# Altium schematic symbol library Capacitors-0603.SchLib: 6 symbols
Pins are listed as number, name and electrical type; pins without a type are passive.

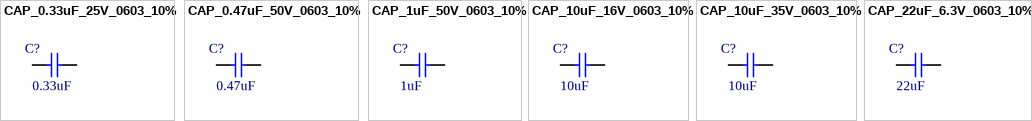
[diagram p0: symbols CAP_0.33uF_25V_0603_10% to CAP_22uF_6.3V_0603_10%]

## CAP_0.33uF_25V_0603_10%
designator C?, comment value 0.33uF  (hidden comment: 0.33uF 25V 0603)
0.33uF 25V 10% 0603 (1608 Metric); PartNumber: GCJ188R91E334KA01D; Manufacturer: Murata; Mounting Technology: Surface Mount; PackageReference: 0603; PackageDescription: 0603 (1608 Metric); Voltage: 25V; Tolerance: 10%
footprint C0603[1608X92] (Chip Capacitor, Body 1.6x0.8mm)
pins: 1, 2

## CAP_0.47uF_50V_0603_10%
designator C?, comment value 0.47uF  (hidden comment: 0.47uF 50V 0603)
0.47uF 50V 10% 0603 (1608 Metric); PartNumber: GRM188R61H474KA12D; Manufacturer: Murata; Mounting Technology: Surface Mount; PackageReference: 0603; PackageDescription: 0603 (1608 Metric); Voltage: 50V; Tolerance: 10%
footprint C0603[1608X92] (Chip Capacitor, Body 1.6x0.8mm)
pins: 1, 2

## CAP_1uF_50V_0603_10%
designator C?, comment value 1uF  (hidden comment: 1uF 50V 0603)
1uF 50V 10% 0603 (1608 Metric); PartNumber: GRM188R61H105KAALD; Manufacturer: Murata; Mounting Technology: Surface Mount; PackageReference: 0603; PackageDescription: 0603 (1608 Metric); Voltage: 50V; Tolerance: 10%
footprint C0603[1608X92] (Chip Capacitor, Body 1.6x0.8mm)
pins: 1, 2

## CAP_10uF_16V_0603_10%
designator C?, comment value 10uF  (hidden comment: 10uF 16V 0603)
10uF 16V 10% 0603 (1608 Metric); PartNumber: GRM188R61C106KAALD; Manufacturer: Murata; Mounting Technology: Surface Mount; PackageReference: 0603; PackageDescription: 0603 (1608 Metric); Voltage: 16V; Tolerance: 10%
footprint C0603[1608X92] (Chip Capacitor, Body 1.6x0.8mm)
pins: 1, 2

## CAP_10uF_35V_0603_10%
designator C?, comment value 10uF  (hidden comment: 10uF 35V 0603)
10uF 35V 10% 0603 (1608 Metric); PartNumber: GRM188R6YA106MA73D; Manufacturer: Murata; Mounting Technology: Surface Mount; PackageReference: 0603; PackageDescription: 0603 (1608 Metric); Voltage: 35V; Tolerance: 10%
footprint C0603[1608X92] (Chip Capacitor, Body 1.6x0.8mm)
pins: 1, 2

## CAP_22uF_6.3V_0603_10%
designator C?, comment value 22uF  (hidden comment: 22uF 6.3V 0603)
22uF 6.3V 10% 0603 (1608 Metric); PartNumber: GRT188R60J226ME13D; Manufacturer: Murata; Mounting Technology: Surface Mount; PackageReference: 0603; PackageDescription: 0603 (1608 Metric); Voltage: 6.3V; Tolerance: 10%
footprint C0603[1608X92] (Chip Capacitor, Body 1.6x0.8mm)
pins: 1, 2